# EAGLE library part PCA9615 (library SparkFun-IC-Comms)
Differential I2C Bus Buffer Datasheet <https://www.nxp.com/docs/en/data-sheet/PCA9615.pdf>
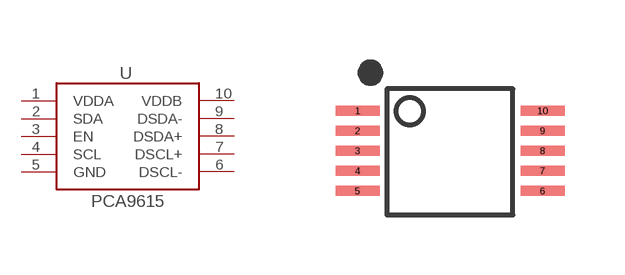
[diagram p12: symbol with the pads of TSSOP10; footprint TSSOP10]

Designator prefix -

## PCA9615 (PROD_ID: IC-13899)  [TSSOP10]
1  VDDA
2  SDA
3  EN
4  SCL
5  GND
6  DSCL-
7  DSCL+
8  DSDA+
9  DSDA-
10  VDDB

## Footprint TSSOP10 (pad centres in mm)
smd 1.1 x 0.25: 1 -2.259,1.018; 2 -2.259,0.517; 3 -2.259,0.018; 4 -2.259,-0.482; 5 -2.259,-0.988; 6 2.366,-0.988; 7 2.366,-0.482; 8 2.366,0.018; 9 2.366,0.517; 10 2.366,1.018